# Altium footprint library EC200U-PCB.PcbLib: 36 footprints (part 2 of 3)
Each footprint in its own frame and in the unit in brackets; x right, y up, seen from the top. Pads: shape width x height; smd on the part's side, far side on the other; paste and mask are expansions set on the pad; w line width, h text height; cw(c..) or ccw(c..) is an arc to the next point about the centre after c.
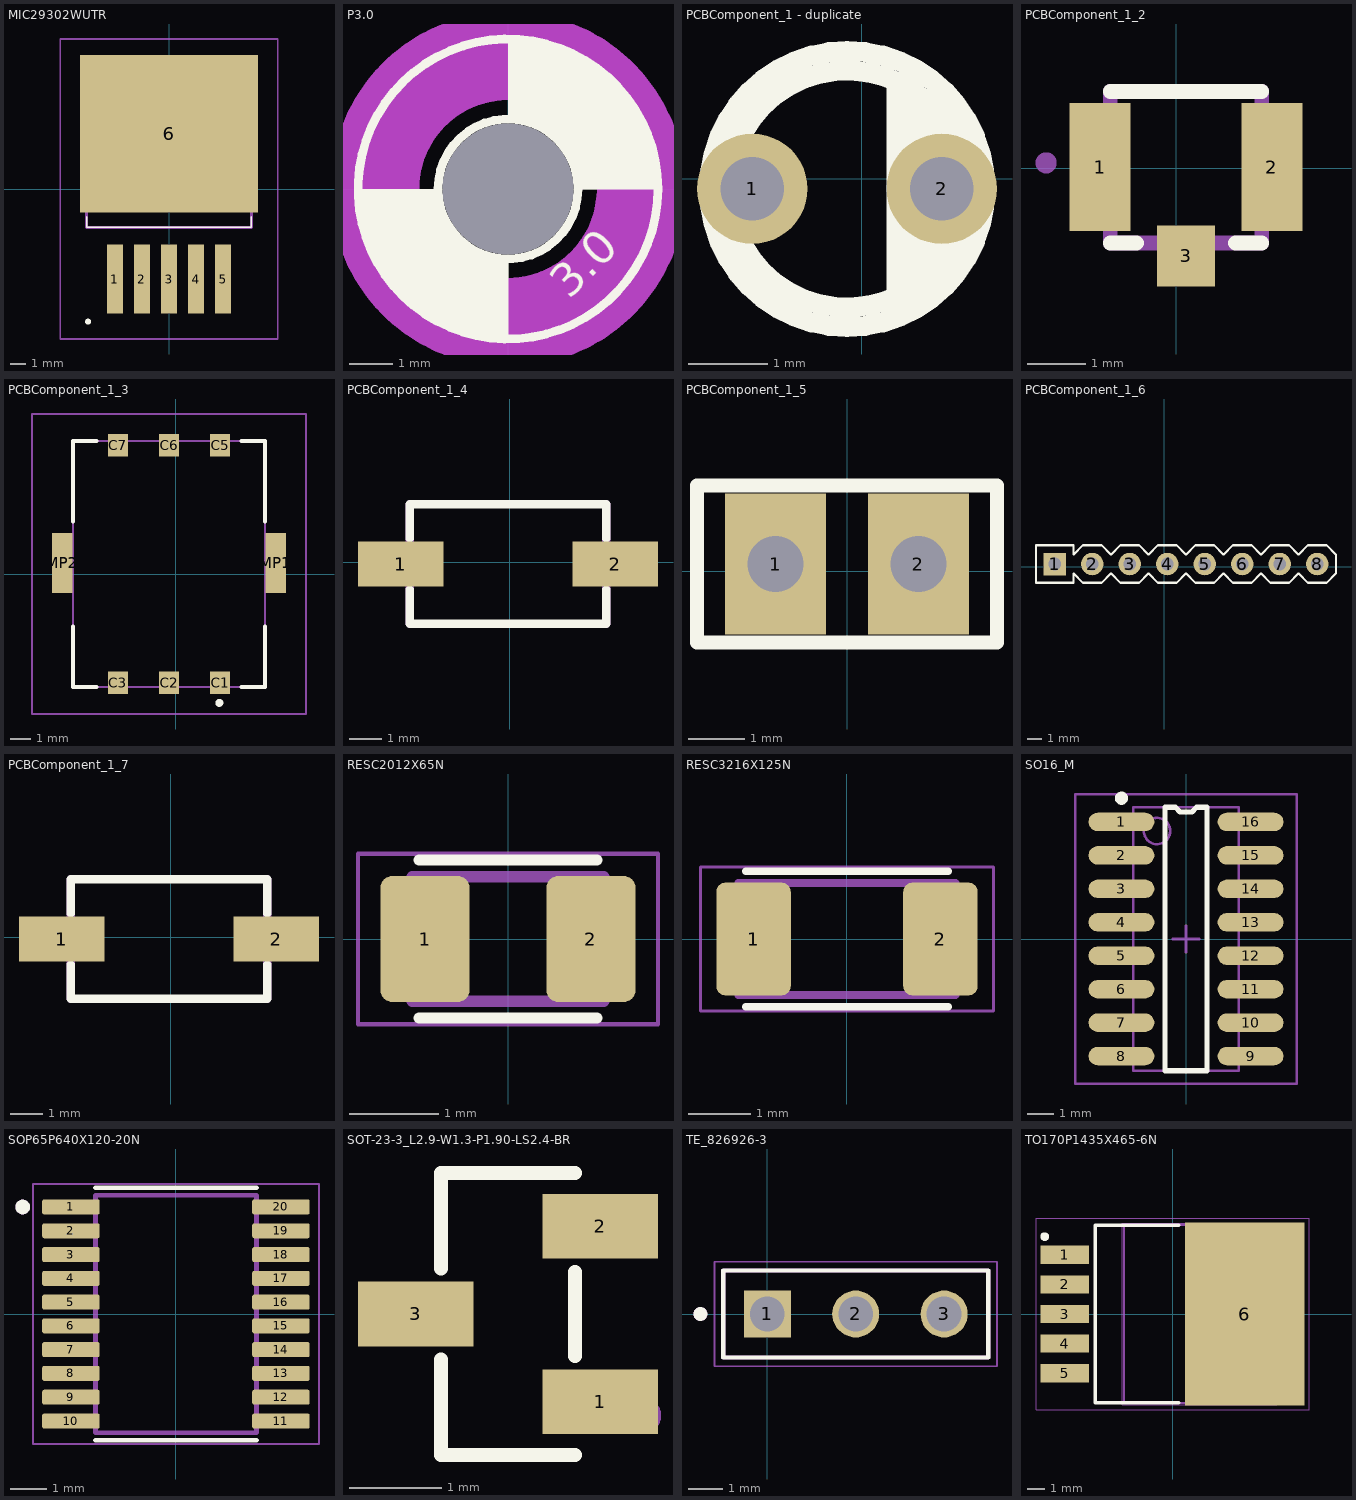
[diagram p1: the footprints below, top view; thin cyan lines are the x and y axes]

## MIC29302WUTR [mm]
pads (6):
  rect 1.02x4.318 smd: 1(-3.4,-5.664) 2(-1.7,-5.664) 3(0,-5.664) 4(1.7,-5.664) 5(3.4,-5.664)
  rect 11.176x9.906 smd: 6(0,3.482)
Top Overlay:
  lines w0.1: -5.181,-1.743 -5.181,-2.412 5.181,-2.412 5.181,-1.743
  lines w0.2: -5.001,-8.343 cw(c-5.091,-8.343) -5.181,-8.343 cw(c-5.09,-8.343) -4.999,-8.343
Mechanical 13:
  lines w0.2: -5.181,-2.412 -5.181,6.757 5.181,6.757 5.181,-2.412 -5.181,-2.412
Mechanical 15:
  lines w0.1: -6.842,-9.433 -6.842,9.433 6.842,9.433 6.842,-9.433 -6.842,-9.433
3D body "MIC29302WU-TR.stp": height 4.42, standoff 0, extent -5.029,-7.306 5.029,7.299

## P3.0 [mm]
pads (1):
  round 0 hole 3 unplated: MH(0,0)
Top Overlay:
  circle w0.2: c0,0 r1.6
  circle w0.2: c0,0 r3.429
  region: 0,-3.429 -0.225,-3.429 -0.67,-3.37 -1.105,-3.254 -1.52,-3.082 -1.909,-2.857 -2.266,-2.584 -2.584,-2.266 -2.857,-1.909 -3.082,-1.52 -3.254,-1.105 -3.37,-0.67 -3.429,-0.225 -3.429,0 -1.6,0 -1.592,-0.157 -1.531,-0.464 -1.411,-0.754 -1.237,-1.015 -1.015,-1.237 -0.754,-1.411 -0.464,-1.531 -0.157,-1.592 0,-1.6
  region: 0,1.6 0.157,1.592 0.464,1.531 0.754,1.411 1.015,1.237 1.237,1.015 1.411,0.754 1.531,0.464 1.592,0.157 1.6,0 3.429,0 3.429,0.225 3.37,0.67 3.254,1.105 3.082,1.52 2.857,1.909 2.584,2.266 2.266,2.584 1.909,2.857 1.52,3.082 1.105,3.254 0.67,3.37 0.225,3.429 0,3.429
  text "3.0" at 1.397,-2.54 h0.76
Bottom Overlay:
  circle w0.2: c0,0 r3.429
  circle w0.2: c0,0 r1.6
  region: 0,1.6 0.157,1.592 0.464,1.531 0.754,1.411 1.015,1.237 1.237,1.015 1.411,0.754 1.531,0.464 1.592,0.157 1.6,0 3.429,0 3.429,0.225 3.37,0.67 3.254,1.105 3.082,1.52 2.857,1.909 2.584,2.266 2.266,2.584 1.909,2.857 1.52,3.082 1.105,3.254 0.67,3.37 0.225,3.429 0,3.429
  region: 0,-3.429 -0.225,-3.429 -0.67,-3.37 -1.105,-3.254 -1.52,-3.082 -1.909,-2.857 -2.266,-2.584 -2.584,-2.266 -2.857,-1.909 -3.082,-1.52 -3.254,-1.105 -3.37,-0.67 -3.429,-0.225 -3.429,0 -1.6,0 -1.592,-0.157 -1.531,-0.464 -1.411,-0.754 -1.237,-1.015 -1.015,-1.237 -0.754,-1.411 -0.464,-1.531 -0.157,-1.592 0,-1.6
Keep-Out Layer:
  circle w2.032: c0,0 r3.048
Mechanical 1:
  circle w2.032: c0,0 r3.048

## PCBComponent_1 - duplicate [mil]
pads (2):
  round 55.12 hole 31.5 paste+0 mask+2: 1(-54.6,-5) 2(40,-5)
Top Overlay:
  circle w10: c-7.2,-5.1 r68.9
  circle w10: c-7.2,-5.1 r59.1
  region: 12.49,53.95 12.49,-68.09 47.92,-48.41 55.79,-9.04 51.86,18.52

## PCBComponent_1_2 [mm]
pads (3):
  rect 1.05x2.2 smd paste+0 mask+0.051: 1(-1.306,0.018) 2(1.644,0.018)
  rect 1x1.05 smd paste+0 mask+0.051: 3(0.169,-1.507)
Top Overlay:
  lines w0.254: -1.131,-1.282 -0.681,-1.282 ; -1.131,1.318 1.469,1.318 ; 1.019,-1.282 1.469,-1.282
Mechanical 15:
  lines w0.254: -2.178,0.087 cw(c-2.232,0.092) -2.178,0.092 ; -1.131,-1.282 1.469,-1.282 1.469,1.318 -1.131,1.318 -1.131,-1.282

## PCBComponent_1_3 [mm]
pads (8):
  rect 1x1.1 smd paste+0 mask+0.051: C1(2.199,-5.385) C2(-0.341,-5.385) C3(-2.881,-5.385) C5(2.199,6.415) C6(-0.341,6.415) C7(-2.881,6.415)
  rect 1x3 smd paste+0 mask+0.051: MP1(4.959,0.565) MP2(-5.641,0.565)
Top Overlay:
  lines w0.2: -5.111,-2.585 -5.111,-5.585 -3.941,-5.585 ; -5.111,2.615 -5.111,6.615 -3.941,6.615 ; 3.259,-5.585 4.429,-5.585 4.429,-2.585 ; 3.259,6.615 4.429,6.615 4.429,2.615 ; 2.059,-6.385 cw(c2.159,-6.39) 2.259,-6.385 cw(c2.159,-6.38) 2.059,-6.385
Mechanical 15:
  lines w0.1: -7.141,-6.935 -7.141,7.965 6.459,7.965 6.459,-6.935 -7.141,-6.935 ; -5.111,-5.585 -5.111,6.615 4.429,6.615 4.429,-5.585 -5.111,-5.585

## PCBComponent_1_4 [mil]
pads (2):
  rect 104.3x55.1 smd: 1(-132.85,-2) 2(129.15,-2)
Top Overlay:
  lines w10: -121.85,-75 118.15,-75 ; -121.85,-73 -121.85,-33 ; -121.85,29 -121.85,69 ; -121.85,71 118.15,71 ; 118.15,-73 118.15,-33 ; 118.15,29 118.15,69
Mechanical 15:
  lines w10: -121.85,-75 -121.85,71 ; 118.15,-75 118.15,71

## PCBComponent_1_5 [mm]
pads (2):
  rect 1.8x2.5 hole 1 paste+0 mask+0.051: 1(-1.27,0.127) 2(1.27,0.127)
Top Overlay:
  lines w0.254: -2.667,-1.27 2.667,-1.27 2.667,1.524 -2.667,1.524 -2.667,-1.27

## PCBComponent_1_6 [mil]
pads (8):
  rect 60x60 hole 33.86 paste+0 mask+2: 1(-292.01,7.99)
  round 60 hole 33.86 paste+0 mask+2: 2(-192.01,7.99) 3(-92.01,7.99) 4(7.99,7.99) 5(107.99,7.99) 6(207.99,7.99) 7(307.99,7.99) 8(407.99,7.99)
Top Overlay:
  lines w5.98: -342.01,-42.01 -342.01,-17.01 -342.01,32.99 -342.01,57.99 -242.01,57.99 -242.01,32.99 -217.01,57.99 -167.01,57.99 -142.01,32.99 -117.01,57.99 -67.01,57.99 -42.01,32.99 -17.01,57.99 32.99,57.99 57.99,32.99 82.99,57.99 132.99,57.99 157.99,32.99 182.99,57.99 232.99,57.99 257.99,32.99 282.99,57.99 332.99,57.99 357.99,32.99 382.99,57.99 432.99,57.99 457.99,32.99 457.99,-17.01 432.99,-42.01 382.99,-42.01 357.99,-17.01 332.99,-42.01 282.99,-42.01 257.99,-17.01 232.99,-42.01 182.99,-42.01 157.99,-17.01 132.99,-42.01 82.99,-42.01 57.99,-17.01 32.99,-42.01 -17.01,-42.01 -42.01,-17.01 -67.01,-42.01 -117.01,-42.01 -142.01,-17.01 -167.01,-42.01 -217.01,-42.01 -242.01,-17.01 -242.01,-42.01 -342.01,-42.01
Mechanical 15:
  lines w0.1: 82.98,12.98 83,13

## PCBComponent_1_7 [mil]
pads (2):
  rect 104.3x55.1 smd: 1(-132.85,-2) 2(129.15,-2)
Top Overlay:
  lines w10: -121.85,-75 118.15,-75 ; -121.85,-73 -121.85,-33 ; -121.85,29 -121.85,69 ; -121.85,71 118.15,71 ; 118.15,-73 118.15,-33 ; 118.15,29 118.15,69
Mechanical 15:
  lines w10: -121.85,-75 -121.85,71 ; 118.15,-75 118.15,71

## RESC2012X65N [mm]
pads (2):
  rrect25% 1x1.42 smd: 1(-0.935,0) 2(0.935,0)
Top Overlay:
  lines w0.127: -1,-0.89 1,-0.89 ; -1,0.89 1,0.89
Mechanical 13:
  lines w0.127: -1.08,-0.7 -1.08,0.7 1.08,0.7 1.08,-0.7 -1.08,-0.7
Mechanical 15:
  lines w0.05: -1.69,-0.96 -1.69,0.96 1.69,0.96 1.69,-0.96 -1.69,-0.96
3D body "step_temp.STEP": height 0.6, standoff 0, extent -1,-0.625 1,0.625

## RESC3216X125N [mm]
pads (2):
  rrect25% 1.2x1.82 smd: 1(-1.505,0) 2(1.505,0)
Top Overlay:
  lines w0.127: -1.63,-1.09 1.63,-1.09 ; -1.63,1.09 1.63,1.09
Mechanical 13:
  lines w0.127: -1.75,-0.9 1.75,-0.9 1.75,0.9 -1.75,0.9 -1.75,-0.9
Mechanical 15:
  lines w0.05: -2.36,-1.16 2.36,-1.16 2.36,1.16 -2.36,1.16 -2.36,-1.16
3D body "step_temp.STEP": height 0.43, standoff -0.43, extent -1.625,-0.825 1.625,0.825

## SO16_M [mm]
pads (16):
  oval 2.5x0.7 smd: 1(-2.45,4.445) 2(-2.45,3.175) 3(-2.45,1.905) 4(-2.45,0.635) 5(-2.45,-0.635) 6(-2.45,-1.905) 7(-2.45,-3.175) 8(-2.45,-4.445) 9(2.45,-4.445) 10(2.45,-3.175) 11(2.45,-1.905) 12(2.45,-0.635) 13(2.45,0.635) 14(2.45,1.905) 15(2.45,3.175) 16(2.45,4.445)
Top Overlay:
  circle w0.25: c-2.45,5.345 r0.125
  lines w0.2: -0.8,-5 -0.8,5 -0.4,5 -0.226,4.826 0.226,4.826 0.4,5 0.8,5 0.8,-5 -0.8,-5
Mechanical 13:
  circle w0.1: c-1.1,4.1 r0.5
  lines w0.1: -2,-5 -2,5 2,5 2,-5 -2,-5
Mechanical 15:
  lines w0.1: -0.5,0 0.5,0 ; 0,-0.5 0,0.5 ; -4.2,-5.5 -4.2,5.5 4.2,5.5 4.2,-5.5 -4.2,-5.5
3D body "User Library-SO-16N.STEP": height 1.62, standoff 0, extent -3,-4.965 3,4.965

## SOP65P640X120-20N [mm]
pads (20):
  rrect25% 1.57x0.41 smd: 1(-2.87,2.925) 2(-2.87,2.275) 3(-2.87,1.625) 4(-2.87,0.975) 5(-2.87,0.325) 6(-2.87,-0.325) 7(-2.87,-0.975) 8(-2.87,-1.625) 9(-2.87,-2.275) 10(-2.87,-2.925) 11(2.87,-2.925) 12(2.87,-2.275) 13(2.87,-1.625) 14(2.87,-0.975) 15(2.87,-0.325) 16(2.87,0.325) 17(2.87,0.975) 18(2.87,1.625) 19(2.87,2.275) 20(2.87,2.925)
Top Overlay:
  circle w0.2: c-4.19,2.925 r0.1
  lines w0.127: -2.2,-3.45 2.2,-3.45 ; -2.2,3.45 2.2,3.45
Mechanical 13:
  circle w0.2: c-4.19,2.925 r0.1
  lines w0.127: -2.2,-3.25 2.2,-3.25 2.2,3.25 -2.2,3.25 -2.2,-3.25
Mechanical 15:
  lines w0.05: -3.91,-3.55 3.91,-3.55 3.91,3.55 -3.91,3.55 -3.91,-3.55
3D body "step_temp.STEP": height 1.2, standoff 0, extent -3.2,-3.25 3.2,3.25

## SOT-23-3_L2.9-W1.3-P1.90-LS2.4-BR [mm]
pads (3):
  rect 1.25x0.7 smd: 1(431.596,-422.514) 2(431.596,-420.614) 3(429.597,-421.564)
Top Overlay:
  lines w0.152: 429.87,-422.058 429.87,-423.09 431.323,-423.09 ; 429.87,-421.069 429.87,-420.038 431.323,-420.038 ; 431.323,-422.019 431.323,-421.108
Mechanical 15:
  circle w0.2: c432.057,-422.664 r0.1

## TE_826926-3 [mm]
pads (3):
  rect 1.35x1.35 / inner round 1.35 / far side rect 1.35x1.35 hole 1: 1(0,0)
  round 1.35 hole 1: 2(2.54,0) 3(5.08,0)
Top Overlay:
  circle w0.2: c-1.92,0 r0.1
  lines w0.127: -1.27,-1.25 6.35,-1.25 6.35,1.25 -1.27,1.25 -1.27,-1.25
Mechanical 13:
  circle w0.2: c-1.92,0 r0.1
  lines w0.127: -1.27,-1.25 6.35,-1.25 ; -1.27,-1.25 6.35,-1.25 ; -1.27,-1.25 -1.27,1.25 6.35,1.25 6.35,-1.25
Mechanical 15:
  lines w0.05: -1.52,-1.5 6.6,-1.5 6.6,1.5 -1.52,1.5 -1.52,-1.5

## TO170P1435X465-6N [mm]
pads (6):
  rect 2.8x1.05 smd: 1(-6.2,3.4) 2(-6.2,1.7) 3(-6.2,0) 4(-6.2,-1.7) 5(-6.2,-3.4)
  rect 6.85x10.5 smd: 6(4.15,0)
Top Overlay:
  circle w0.25: c-7.35,4.45 r0.125
  lines w0.2: 0.35,-5.1 -4.45,-5.1 -4.45,5.1 0.35,5.1
Mechanical 13:
  lines w0.1: 5.905,-5.112 6.324,-5.112 7.175,-4.17 7.175,4.17 6.324,5.112 5.905,5.112 ; 5.905,-5.112 5.905,5.112 ; 5.905,-5.112 -2.785,-5.112 -2.785,5.112 5.905,5.112
Mechanical 15:
  lines w0.001: -2.885,-5.205 -2.885,5.205 6.005,5.205 6.005,-5.205 -2.885,-5.205
  lines w0.05: -7.85,-5.5 -7.85,5.5 7.85,5.5 7.85,-5.5 -7.85,-5.5
3D body "LM2596S-3.3_NOPB.stp": height 4.72, standoff 0, extent -7.16,-5.08 7.14,5.08